# Altium footprint library TO-18 4.PcbLib: 1 footprints
Each footprint in its own frame and in the unit in brackets; x right, y up, seen from the top. Pads: shape width x height; smd on the part's side, far side on the other; paste and mask are expansions set on the pad; w line width, h text height; cw(c..) or ccw(c..) is an arc to the next point about the centre after c.
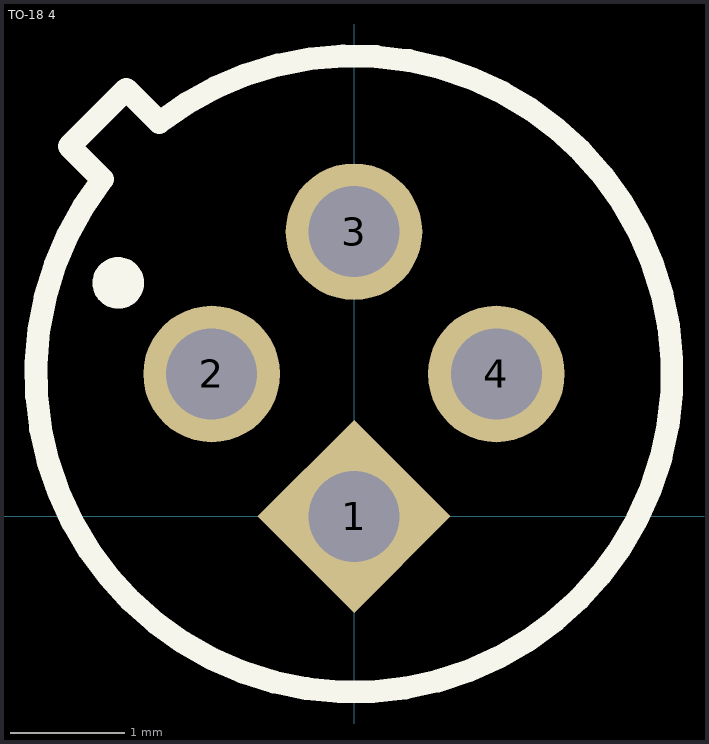
[diagram p0: the footprint, top view; thin cyan lines are the x and y axes]

## TO-18 4 [mm]
height 5.2
pads (4):
  rect 1.2x1.2 hole 0.8 rot 45: 1(0,0)
  round 1.2 hole 0.8: 2(-1.25,1.25) 3(0,2.499) 4(1.25,1.25)
Top Overlay:
  circle w0.254: c-2.07,2.05 r0.1
  lines w0.2: -2.211,2.958 ccw(c0,1.25) -1.708,3.46 ; -2.21,2.959 -2.5,3.25 -2,3.75 ; -1.71,3.459 -2,3.75 ; -2,3.75 -2,3.75
3D body "TO-18.STEP": height 5.43, standoff -1.9, extent -3.282,-1.68 2.96,4.561